# EAGLE library part EL8201ISZ (library Intersil_By_element14_Batch_1)
200MHz Rail-to-Rail Amplifiers
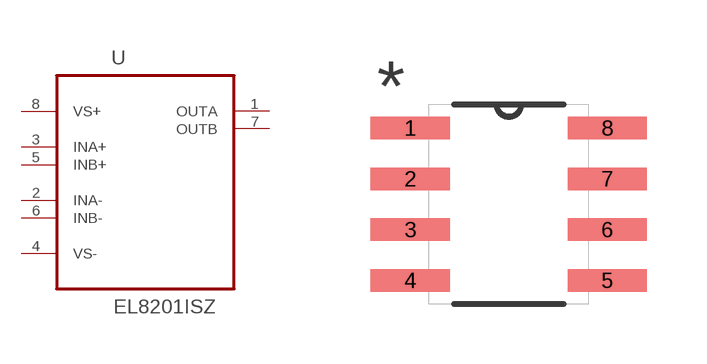
[diagram p82: symbol with the pads of SOIC127P600X175-8N; footprint SOIC127P600X175-8N]

Designator prefix U

## EL8201ISZ (MPN: EL8201ISZ; OC_FARNELL: 1231758; OC_NEWARK: 61J5707; PACKAGE: SOIC-8; SUPPLIER: INTERSIL)  [SOIC127P600X175-8N]
1  OUTA  out
2  INA-  in
3  INA+  in
4  VS-  pwr
5  INB+  in
6  INB-  in
7  OUTB  out
8  VS+  pwr

## Footprint SOIC127P600X175-8N (pad centres in mm)
smd 1.981 x 0.559: 1 -2.464,1.905; 2 -2.464,0.635; 3 -2.464,-0.635; 4 -2.464,-1.905; 5 2.464,-1.905; 6 2.464,-0.635; 7 2.464,0.635; 8 2.464,1.905